# Altium footprint library Analog_Project_pcblib.PrjPcb.PcbLib: 46 footprints (part 3 of 3)
Each footprint in its own frame and in the unit in brackets; x right, y up, seen from the top. Pads: shape width x height; smd on the part's side, far side on the other; paste and mask are expansions set on the pad; w line width, h text height; cw(c..) or ccw(c..) is an arc to the next point about the centre after c.
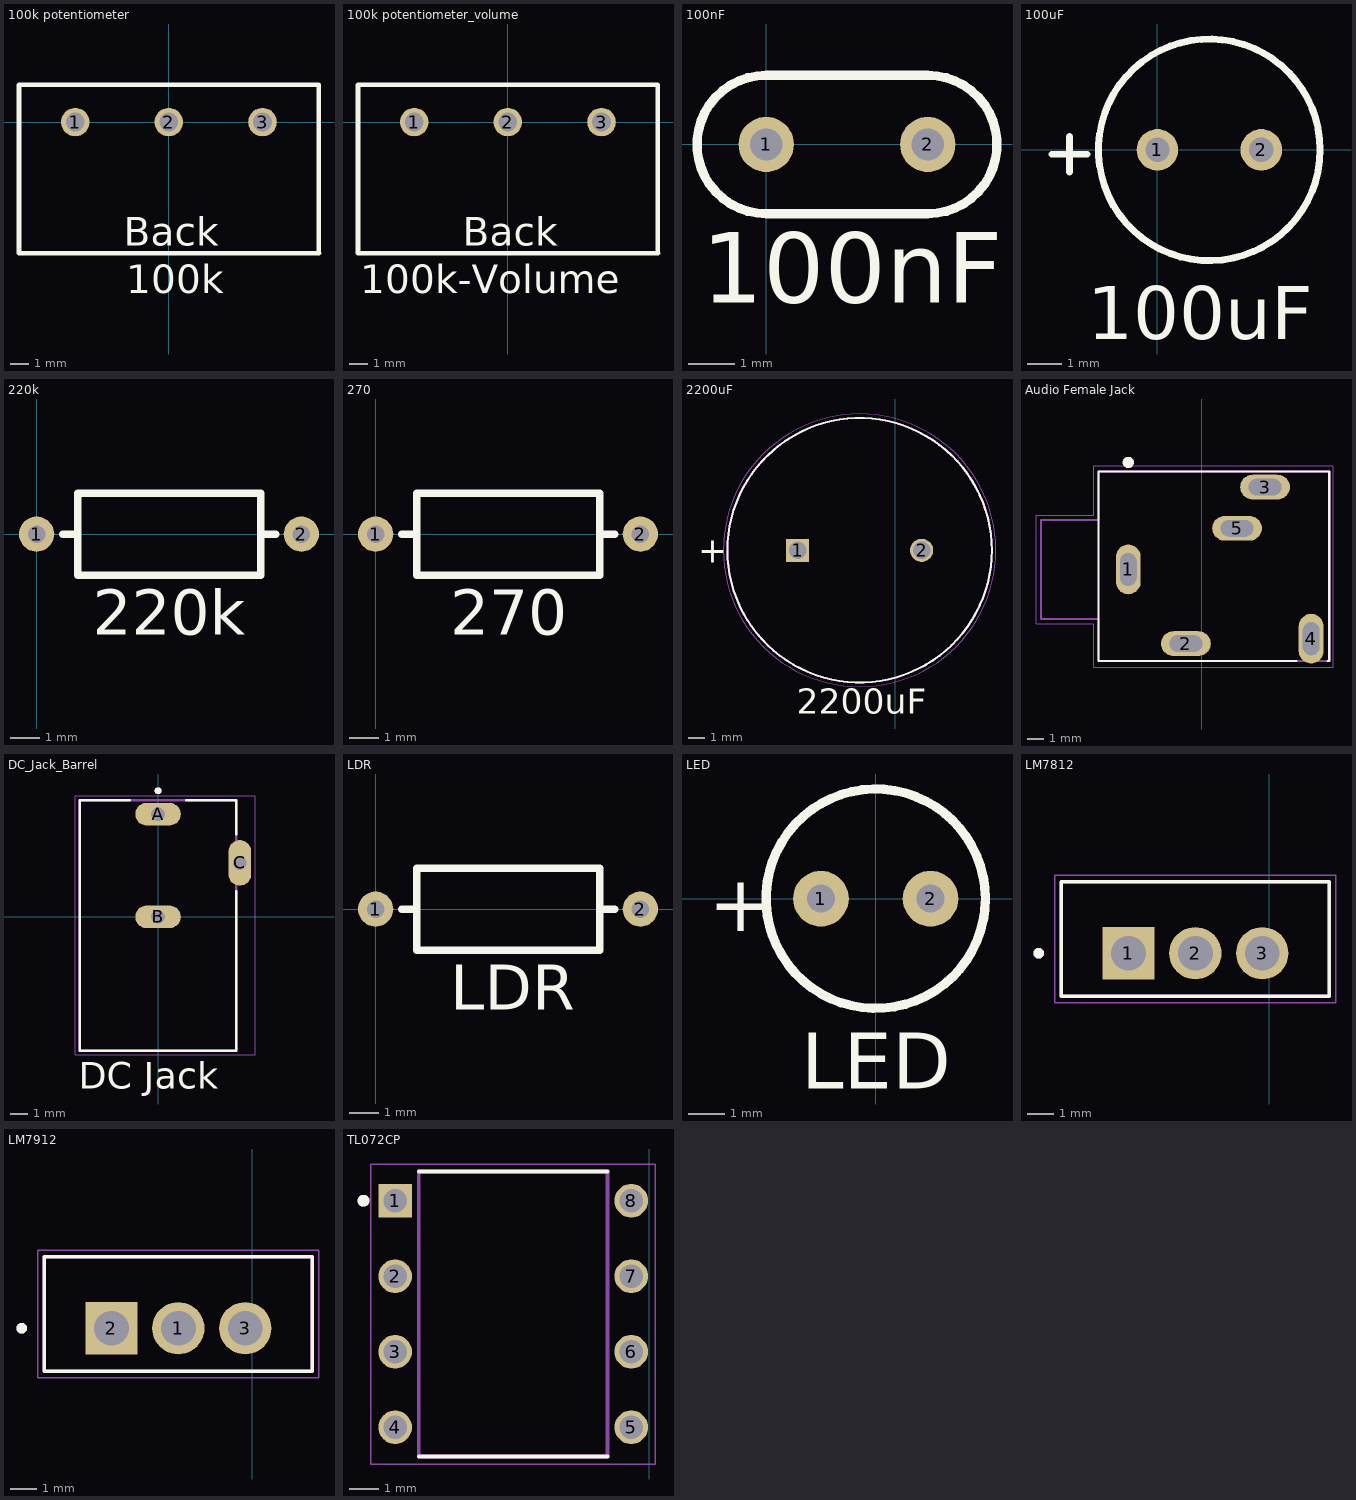
[diagram p2: the footprints below, top view; thin cyan lines are the x and y axes]

## 100k potentiometer [mil]
pads (3):
  round 60 hole 39.37: 1(-196.85,0) 2(0,0) 3(196.85,0)
Top Overlay:
  lines w10: 314.96,-275.59 314.96,78.74 -314.96,78.74 -314.96,-275.59 315.59,-275.59
  text "Back" at -95,-260 h60
  text "100k" at -90,-360 h60

## 100k potentiometer_volume [mil]
pads (3):
  round 60 hole 39.37: 1(-196.85,0) 2(0,0) 3(196.85,0)
Top Overlay:
  lines w10: 314.96,-275.59 314.96,78.74 -314.96,78.74 -314.96,-275.59 315.59,-275.59
  text "100k-Volume" at -310,-360 h60
  text "Back" at -95,-260 h60

## 100nF [mm]
pads (2):
  round 1.2 hole 0.7: 1(0,0) 2(3.5,0)
Top Overlay:
  lines w0.2: 0,-1.5 cw(c0,0) 0,1.5 3.5,1.5 cw(c3.5,0) 3.5,-1.5 0,-1.5
  text "100nF" at -1.397,-3.429 h1.52

## 100uF [mm]
pads (2):
  round 1.2 hole 0.7: 1(0,0) 2(3,0)
Top Overlay:
  circle w0.2: c1.5,0 r3.2
  lines w0.2: -3.048,-0.127 -2.032,-0.127 ; -2.54,-0.635 -2.54,0.381
  text "100uF" at -2.032,-5.461 h1.52

## 220k [mm]
pads (2):
  round 1.2 hole 0.6: 1(0,0) 2(9,0)
Top Overlay:
  lines w0.254: 0.889,0 1.397,0 ; 7.62,0 8.128,0 ; 1.397,0 1.397,-1.397 7.62,-1.397 7.62,1.397 1.397,1.397 1.397,0
  text "220k" at 1.905,-3.429 h1.52

## 270 [mm]
pads (2):
  round 1.2 hole 0.6: 1(0,0) 2(9,0)
Top Overlay:
  lines w0.254: 0.889,0 1.397,0 ; 7.62,0 8.128,0 ; 1.397,0 1.397,1.397 7.62,1.397 7.62,-1.397 1.397,-1.397 1.397,0
  text "270" at 2.54,-3.429 h1.52

## 2200uF [mm]
pads (2):
  rect 1.4x1.4 hole 1.05: 1(-5.909,-53.848)
  round 1.4 hole 1.05: 2(1.591,-53.848)
Top Overlay:
  circle w0.127: c-2.159,-53.848 r8
  text "2200uF" at -5.969,-63.754 h1.52
  text "+" at -11.938,-54.61 h1.52
Mechanical 13:
  circle w0.127: c-2.159,-53.848 r8
Mechanical 15:
  circle w0.05: c-2.159,-53.848 r8.25
3D body "step_temp.STEP": height 25, standoff -17, extent -10.159,-61.845 5.841,-45.851

## Audio Female Jack [mm]
pads (5):
  oval 1.508x3.016 hole 1 slot 2 at 90 deg: 1(-4.445,-76.708) 4(6.655,-80.908)
  oval 3.016x1.508 hole 1 slot 2 at 0 deg: 2(-0.945,-81.208) 3(3.855,-71.708) 5(2.155,-74.208)
Top Overlay:
  circle w0.34: c-4.445,-70.208 r0.17
  lines w0.127: 5.755,-82.258 -6.245,-82.258 -6.245,-70.758 7.755,-70.758 7.755,-82.258 7.655,-82.258
Mechanical 13:
  lines w0.127: -9.745,-79.708 -9.745,-73.708 -6.245,-73.708 -6.245,-70.758 7.755,-70.758 7.755,-82.258 -6.245,-82.258 -6.245,-79.708 -9.745,-79.708
Mechanical 15:
  lines w0.05: -10.045,-80.008 -10.045,-73.408 -6.545,-73.408 -6.545,-70.408 8.005,-70.408 8.005,-82.658 -6.545,-82.658 -6.545,-80.008 -10.045,-80.008
3D body "step_temp.STEP": height 6, standoff -3, extent -9.766,-82.296 7.734,-70.796

## DC_Jack_Barrel [mm]
height 10.8
pads (3):
  oval 2.616x1.308 hole 0.8 square mask+0.05: A(0,5.9) B(0,0)
  oval 1.308x2.616 hole 0.8 square mask+0.05: C(4.7,3.1)
Top Overlay:
  circle w0.2: c0,7.25 r0.1
  lines w0.127: -1.625,6.7 -4.5,6.7 -4.5,-7.7 4.5,-7.7 4.5,1.475 ; 1.625,6.7 4.5,6.7 4.5,4.725
  text "DC Jack" at -4.572,-9.906 h1.52
Mechanical 13:
  circle w0.2: c0,7.25 r0.1
  lines w0.127: -4.5,-7.7 4.5,-7.7 4.5,6.7 -4.5,6.7 -4.5,-7.7
Mechanical 15:
  lines w0.05: -4.75,-7.95 -4.75,6.95 5.604,6.95 5.604,-7.95 -4.75,-7.95
3D body "step_temp.STEP": height 10.8, standoff -3.5, extent -4.5,-7.7 4.86,6.7

## LDR [mm]
pads (2):
  round 1.2 hole 0.6: 1(0,0) 2(9,0)
Top Overlay:
  lines w0.254: 0.889,0 1.397,0 ; 7.62,0 8.128,0 ; 1.397,0 1.397,1.397 7.62,1.397 7.62,-1.397 1.397,-1.397 1.397,0
  text "LDR" at 2.54,-3.429 h1.52

## LED [mil]
pads (2):
  round 60 hole 30: 1(-59.06,0) 2(59.06,0)
Top Overlay:
  circle w10: c0,0 r118.11
  text "LED" at -80,-205 h60
  text "+" at -180,-35 h60

## LM7812 [mm]
pads (3):
  rect 1.98x1.98 / inner round 1.98 / far side rect 1.98x1.98 hole 1.32: 1(-5.329,-36.354)
  round 1.98 hole 1.32: 2(-2.794,-36.354) 3(-0.259,-36.354)
Top Overlay:
  circle w0.2: c-8.734,-36.354 r0.1
  lines w0.127: -7.874,-37.989 2.286,-37.989 2.286,-33.639 -7.874,-33.639 -7.874,-37.989
Mechanical 13:
  circle w0.2: c-8.734,-36.354 r0.1
  lines w0.127: -7.874,-37.989 2.286,-37.989 2.286,-33.639 -7.874,-33.639 -7.874,-37.989
Mechanical 15:
  lines w0.05: -8.124,-38.239 2.536,-38.239 2.536,-33.389 -8.124,-33.389 -8.124,-38.239
3D body "step_temp.STEP": height 19.22, standoff -9.68, extent -7.894,-38.028 2.306,-33.528

## LM7912 [mm]
pads (3):
  round 1.98 hole 1.32: 1(-2.794,-36.354) 3(-0.259,-36.354)
  rect 1.98x1.98 / inner round 1.98 / far side rect 1.98x1.98 hole 1.32: 2(-5.329,-36.354)
Top Overlay:
  circle w0.2: c-8.734,-36.354 r0.1
  lines w0.127: -7.874,-37.989 2.286,-37.989 2.286,-33.639 -7.874,-33.639 -7.874,-37.989
Mechanical 13:
  circle w0.2: c-8.734,-36.354 r0.1
  lines w0.127: -7.874,-37.989 2.286,-37.989 2.286,-33.639 -7.874,-33.639 -7.874,-37.989
Mechanical 15:
  lines w0.05: -8.124,-38.239 2.536,-38.239 2.536,-33.389 -8.124,-33.389 -8.124,-38.239
3D body "step_temp.STEP": height 19.22, standoff -9.68, extent -7.894,-38.028 2.306,-33.528

## TL072CP [mm]
pads (8):
  rect 1.13x1.13 / inner round 1.13 / far side rect 1.13x1.13 hole 0.78 mask+0.102: 1(-8.542,-33.655)
  round 1.13 hole 0.78 mask+0.102: 2(-8.542,-36.195) 3(-8.542,-38.735) 4(-8.542,-41.275) 5(-0.602,-41.275) 6(-0.602,-38.735) 7(-0.602,-36.195) 8(-0.602,-33.655)
Top Overlay:
  circle w0.2: c-9.607,-33.655 r0.1
  lines w0.127: -7.747,-42.26 -1.397,-42.26 ; -7.747,-32.67 -1.397,-32.67
Mechanical 13:
  circle w0.2: c-9.607,-33.655 r0.1
  lines w0.127: -7.747,-42.26 -7.747,-32.67 -1.397,-32.67 -1.397,-42.26 -7.747,-42.26
Mechanical 15:
  lines w0.05: -9.357,-42.51 -9.357,-32.42 0.213,-32.42 0.213,-42.51 -9.357,-42.51
3D body "step_temp.STEP": height 5.08, standoff -3, extent -8.725,-42.26 -0.419,-32.67